# EAGLE library part SMC-202-7 (library simCardHolder)
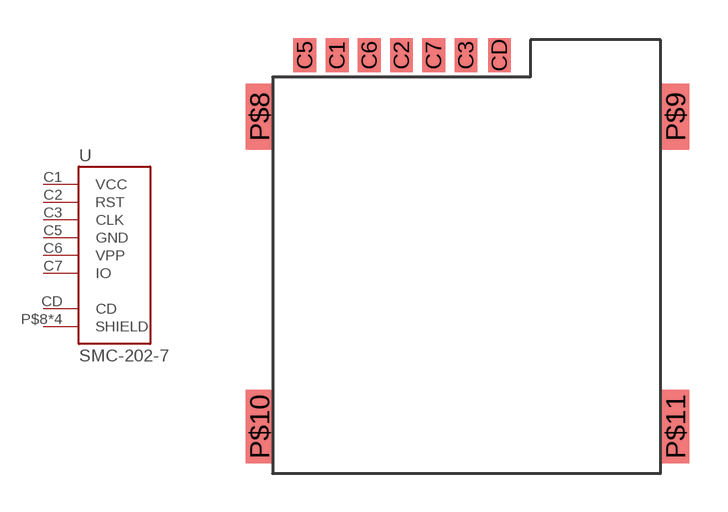
[diagram p1: symbol with the pads of SMC-202-7; footprint SMC-202-7]

Designator prefix -

## SMC-202-7  [SMC-202-7]
C1  VCC  pas
C2  RST  pas
C3  CLK  pas
C5  GND  pas
C6  VPP  pas
C7  IO  pas
CD  CD  pas
P$8  SHIELD  pas
P$9  SHIELD  pas
P$10  SHIELD  pas
P$11  SHIELD  pas

## Footprint SMC-202-7 (pad centres in mm)
smd 0.9 x 1.35: C1 1.27,0; C2 3.81,0; C3 6.35,0; C5 0,0; C6 2.54,0; C7 5.08,0; CD 7.67,0
smd 1.1 x 2.6: P$8 -1.79,-2.425; P$9 14.61,-2.425
smd 1.1 x 2.9: P$10 -1.79,-14.655; P$11 14.61,-14.655